# Altium schematic symbol library User.SchLib: 4 symbols
Pins are listed as number, name and electrical type; pins without a type are passive.

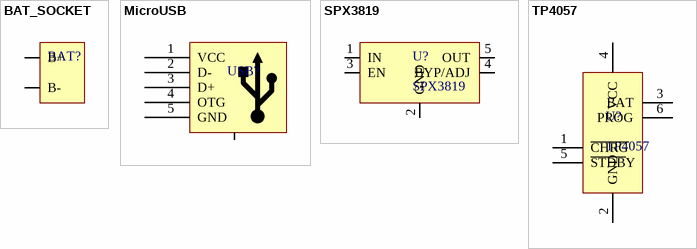
[diagram p0: symbols BAT_SOCKET to TP4057]

## BAT_SOCKET
designator BAT?, comment BATERRY SOCKET  (value not drawn)
footprint BAT_SOCKET
pins: 1 B+, 2 B-

## MicroUSB
designator USB?  (value not drawn)
footprint MicroUSB
pins: 0 GND, 1 VCC, 2 D-, 3 D+, 4 OTG, 5 GND

## SPX3819
designator U?
footprint SOT23-5
pins: 1 IN, 2 GND, 3 EN, 4 BYP/ADJ, 5 OUT

## TP4057
designator U?
footprint SOT23-6
pins: 1 ~{CHRG}, 2 GND, 3 BAT, 4 VCC, 5 ~{STDB}Y, 6 PROG